# Altium footprint library ADI-E-8-1_V.PcbLib: 1 footprints
Each footprint in its own frame and in the unit in brackets; x right, y up, seen from the top. Pads: shape width x height; smd on the part's side, far side on the other; paste and mask are expansions set on the pad; w line width, h text height; cw(c..) or ccw(c..) is an arc to the next point about the centre after c.
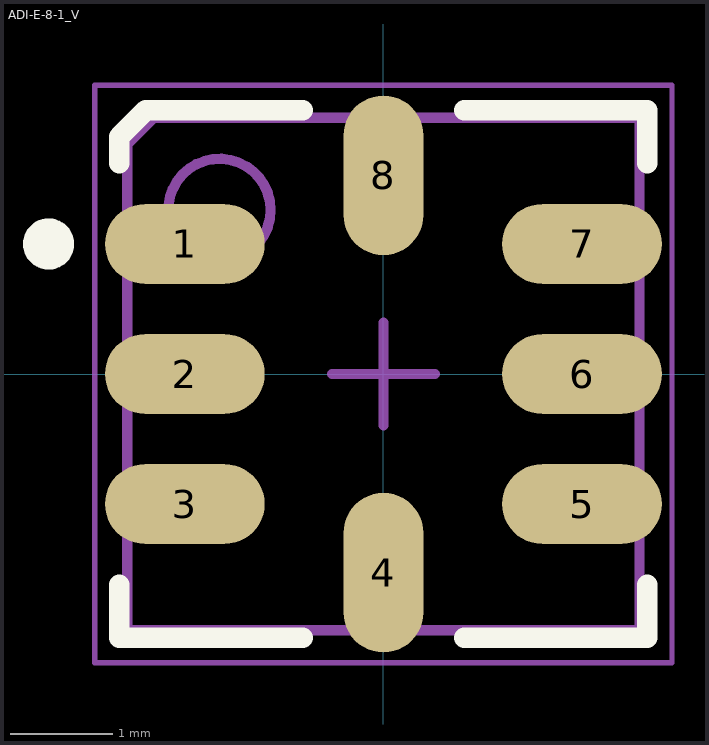
[diagram p0: the footprint, top view; thin cyan lines are the x and y axes]

## ADI-E-8-1_V [mm] "LCC, 8-Leads, Body 5x5mm, Pitch 1.27mm"
height 2.21
pads (8):
  oval 1.56x0.78 smd: 1(-1.94,1.27) 2(-1.94,0) 3(-1.94,-1.27) 5(1.94,-1.27) 6(1.94,0) 7(1.94,1.27)
  oval 0.78x1.56 smd: 4(0,-1.94) 8(0,1.94)
Top Overlay:
  circle w0.25: c-3.27,1.27 r0.125
  lines w0.2: -2.578,-2.06 -2.578,-2.578 -0.79,-2.578 ; -2.578,2.06 -2.578,2.319 -2.319,2.578 -0.79,2.578 ; 0.79,-2.578 2.578,-2.578 2.578,-2.06 ; 0.79,2.578 2.578,2.578 2.578,2.06
Mechanical 13:
  circle w0.1: c-1.602,1.602 r0.5
  lines w0.1: -2.502,-2.502 2.502,-2.502 2.502,2.502 -2.243,2.502 -2.502,2.243 -2.502,-2.502
Mechanical 15:
  lines w0.05: -2.82,-2.82 2.82,-2.82 2.82,2.82 -2.82,2.82 -2.82,-2.82
  lines w0.1: -0.5,0 0.5,0 ; 0,-0.5 0,0.5
3D body: height 2.21, standoff 0, extent -2.502,-2.502 2.502,2.502